# EAGLE library part AS-ITM-00376 (library tinycircuits)
2.0 W/B PLG HSG ASSY RA W/BOSS
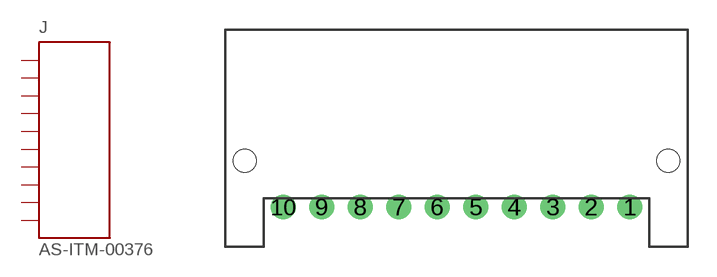
[diagram p153: symbol with the pads of 559351010; footprint 559351010]

Designator prefix J

## AS-ITM-00376 (PARTNO: AS-ITM-00376; VALUE: 0559351010)  [559351010]
1  P$1
2  P$2
3  P$3
4  P$4
5  P$5
6  P$6
7  P$7
8  P$8
9  P$9
10  P$10

## Footprint 559351010 (pad centres in mm)
drill 0.78: 1 9,-4; 2 7,-4; 3 5,-4; 4 3,-4; 5 1,-4; 6 -1,-4; 7 -3,-4; 8 -5,-4; 9 -7,-4; 10 -9,-4
hole 1.2 at -11,-1.6
hole 1.2 at 11,-1.6